# Altium schematic symbol library GRM31CR61C226KE15L.SchLib: 2 symbols
Pins are listed as number, name and electrical type; pins without a type are passive.

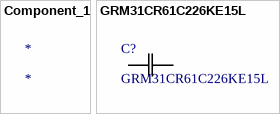
[diagram p0: symbols Component_1 to GRM31CR61C226KE15L]

## Component_1
designator *

## GRM31CR61C226KE15L
designator C?
No Description Available; Manufacturer_Name: Murata; Copyright: Copyright (C) 2025 Ultra Librarian. All rights reserved.; Manufacturer_Part_Number: GRM31CR61C226KE15L
footprint G-31_MUR
pins: 1, 2